# Altium schematic symbol library 电源管理IC.SchLib: 2 symbols
Pins are listed as number, name and electrical type; pins without a type are passive.

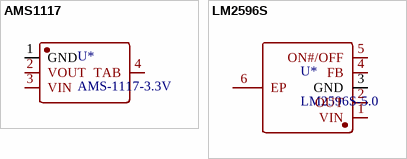
[diagram p0: symbols AMS1117 to LM2596S]

## AMS1117
designator U*, comment AMS-1117-3.3V
降压1.2V-5V
footprint SOT223
pins: 1 GND, 2 VOUT, 3 VIN, 4 TAB

## LM2596S
designator U*, comment LM2596S-5.0
降压3.3V-12V
footprint T0263
pins: 1 VIN, 2 OUT, 3 GND, 4 FB, 5 ON#/OFF, 6 EP